# Altium footprint library syhaunguyen.PcbLib: 329 footprints (part 2 of 21)
Each footprint in its own frame and in the unit in brackets; x right, y up, seen from the top. Pads: shape width x height; smd on the part's side, far side on the other; paste and mask are expansions set on the pad; w line width, h text height; cw(c..) or ccw(c..) is an arc to the next point about the centre after c.
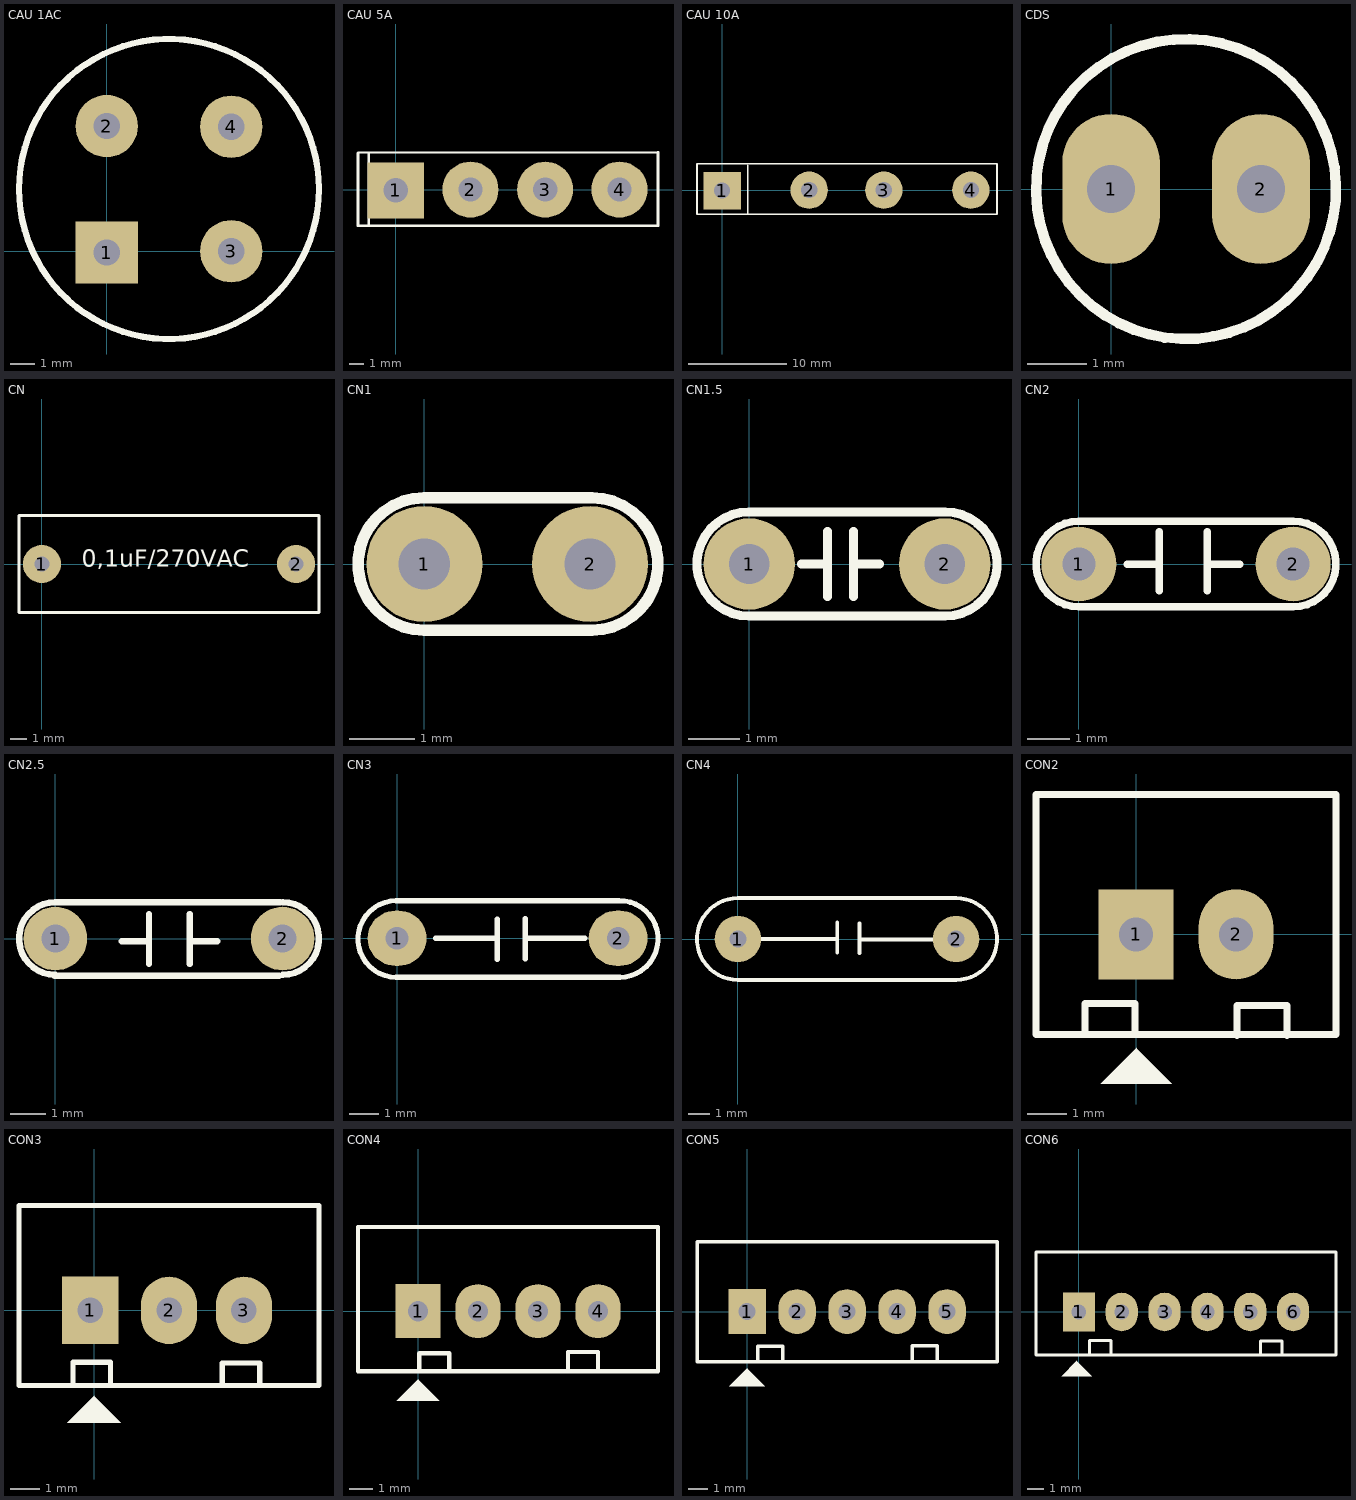
[diagram p1: the footprints below, top view; thin cyan lines are the x and y axes]

## CAU 1AC [mil] "CAU 1A TRON"
height 800
pads (4):
  rect 100x100 hole 42: 1(0,-2)
  round 100 hole 42: 2(0,201) 3(200,0) 4(200,200)
Top Overlay:
  circle w10: c100,100 r240.88

## CAU 5A [mil] "CAU 5A DET"
height 800
pads (4):
  rect 150x150 hole 65: 1(0,-2)
  round 150 hole 65: 2(200,0) 3(400,0) 4(599,0)
Top Overlay:
  lines w7: -72,-95 -72,99 ; -101,-97 -101,97 -99,99 702,100 702,-97 -101,-97
3D body: height 820.68, standoff -621.62, extent -138.98,-105 738.98,43.03

## CAU 10A [mil] "CAU 10A det"
height 800
pads (4):
  rect 150x150 hole 65: 1(0,-2)
  round 150 hole 65: 2(350,0) 3(650,0) 4(1000,0)
Top Overlay:
  lines w7: 103,-95 103,99 ; -101,-97 1105,-97 1105,106.36 -101,104.86 -101,-97

## CDS [mil] "QUANG TRO"
height 300
pads (2):
  oval 65x100 hole 32: 1(0,0) 2(100,0)
Top Overlay:
  lines w7: 136.62,-49.97 cw(c50,0) 137.42,-48.56

## CN [mil] "Tu loc 220"
height 100
pads (2):
  round 90 hole 35: 1(0,0) 2(600,0)
Top Overlay:
  lines w7: -54,-115 654,-115 654,115 -54,115 -54,-115
  text "0,1uF/270VAC" at 94,-21 h70

## CN1 [mil]
height 200
pads (2):
  round 70 hole 31: 1(0,0) 2(100,0)
Top Overlay:
  lines w7: 100,-40 0,-40 cw(c0,0) 0,40 100,40 ; 101,-40 ccw(c101,0) 101,40
3D body: height 265, standoff -46.85, extent -59.93,-30 169.93,36.79

## CN1.5 [mil]
height 200
pads (2):
  round 70 hole 31: 1(0,0) 2(150,0)
Top Overlay:
  lines w7: 40,0 60,0 ; 60,-25 60,25 ; 80,-25 80,25 ; 80,0 100,0 ; 0,-40 cw(c0,0) 0,40 150,40 cw(c150,0) 150,-40 0,-40
3D body: height 235, standoff -76.85, extent -39.86,-33.39 190,33.4

## CN2 [mil]
height 200
pads (2):
  round 70 hole 31: 1(0,0) 2(200,0)
Top Overlay:
  lines w7: 45,0 75,0 ; 75,-25 75,30 ; 120,-25 120,30 ; 120,0 150,0 ; 0,-40 cw(c0,0) 0,40 200,40 cw(c200,0) 200,-40 0,-40
3D body: height 407.48, standoff -87.28, extent -54.48,-44.22 260.48,54.6

## CN2.5 [mil] "Tu pin to pin 250mil"
height 200
pads (2):
  round 70 hole 31: 1(0,0) 2(250,0)
Top Overlay:
  lines w7: -1,-41 246,-41 ; 0,-40 cw(c0,0) 0,40 247,40 ; 73,-3 103,-3 ; 103,-28 103,27 ; 148,-28 148,27 ; 148,-3 178,-3 ; 250,-40 ccw(c250,0) 250,40
3D body: height 454.65, standoff -868.96, extent 11,-80 247.22,69.61

## CN3 [mil] "Cap np W 0.3"
height 200
pads (2):
  oval 80x75 hole 31: 1(0,0) 2(300,0)
Top Overlay:
  lines w7: -1,-53 cw(c-1,-1) -1,51 ; 0,51 300,51 ; 1,-53 300,-53 ; 52,0 136,0 ; 136,-29 136,26 ; 174,-28 174,27 ; 174,0 255,0 ; 300.96,50.99 cw(c302,-1) 302,-53
3D body: height 419.15, standoff -100, extent 0,-39.19 315,55

## CN4 [mil] "Cap np W 0.4"
height 200
pads (2):
  round 85 hole 31: 1(0,0) 2(400,0)
Top Overlay:
  lines w7: 44,0 182,0 ; 182,-25 182,30 ; 223,-26 223,29 ; 223,-1 360,-1 ; 399,75 0,75 ccw(c0,0) 0,-75 400,-75 ccw(c400,0) 400,75

## CON2 [mil] "CON2"
height 200
pads (2):
  rect 75x90 hole 34: 1(0,0)
  oval 75x90 hole 34: 2(100,0)
Top Overlay:
  region: -35.5,-149.5 35.5,-149.5 0.5,-114.5 0.5,-113.5
  lines w7: -51,-99 -51,-69 -1,-69 -1,-99 ; 101,-101 101,-71 151,-71 151,-101 ; -100,-100 -100,140 200,140 200,-100 -100,-100
3D body: height 236.22, standoff -75, extent -68.11,-70 168.11,107.17

## CON3 [mil] "CON 3"
height 200
pads (3):
  rect 75x90 hole 34: 1(-5,0)
  oval 75x90 hole 34: 2(100,0) 3(200,0)
Top Overlay:
  region: -35.5,-149.5 35.5,-149.5 0.5,-114.5 0.5,-113.5
  lines w7: -28,-99 -28,-69 22,-69 22,-99 ; 171,-100 171,-70 221,-70 221,-100 ; -100,-100 -100,140 300,140 300,0 300,-100 -100,-100
3D body: height 275.59, standoff -133.86, extent -94.88,-90 294.88,136.38

## CON4 [mil] "CON4"
height 200
pads (4):
  rect 75x90 hole 34: 1(0,0)
  oval 75x90 hole 34: 2(100,0) 3(200,0) 4(300,0)
Top Overlay:
  region: -35.5,-149.5 35.5,-149.5 0.5,-114.5 0.5,-113.5
  lines w7: 2,-100 2,-70 52,-70 52,-100 ; 250,-98 250,-68 300,-68 300,-98 ; -100,-100 400,-100 400,0 400,140 -100,140 -100,-100
3D body: height 275.59, standoff -133.86, extent -90,-90 398.19,136.38

## CON5 [mil] "CON5"
height 200
pads (5):
  rect 75x90 hole 34: 1(0,0)
  oval 75x90 hole 34: 2(100,0) 3(200,0) 4(300,0) 5(400,0)
Top Overlay:
  region: -35.5,-149.5 35.5,-149.5 0.5,-114.5 0.5,-113.5
  lines w7: 21,-99 21,-69 71,-69 71,-99 ; 330,-98 330,-68 380,-68 380,-98 ; -100,-100 500,-100 500,0 500,140 -100,140 -100,-100

## CON6 [mil] "CON6"
height 200
pads (6):
  rect 75x90 hole 34: 1(0,0)
  oval 75x90 hole 34: 2(100,0) 3(200,0) 4(300,0) 5(400,0) 6(500,0)
Top Overlay:
  region: -40.5,-149.5 30.5,-149.5 -4.5,-114.5 -4.5,-113.5
  lines w7: 25,-97 25,-67 75,-67 75,-97 ; 424,-98 424,-68 474,-68 474,-98 ; -100,-100 600,-100 600,0 600,140 -100,140 -100,-100